# EAGLE library part UG-6464TDDBG01 (library RGB_OLED)
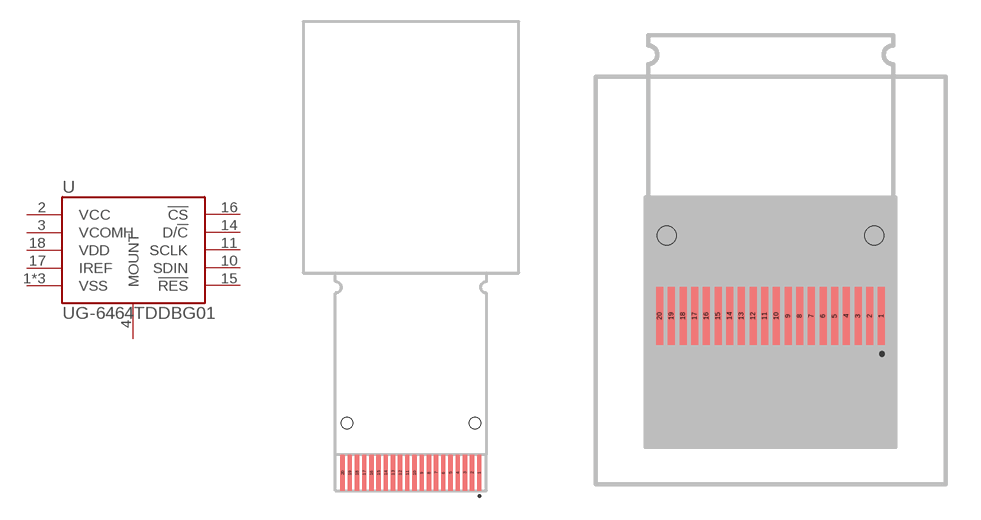
[diagram p0: symbol with the pads of UG-6464TDDBG01-EXTENDED; footprints UG-6464TDDBG01-EXTENDED, UG-6464TDDBG01-FOLDED]

Designator prefix U

## UG-6464TDDBG01-EXT  [UG-6464TDDBG01-EXTENDED]
1  VSS
2  VCC
3  VCOMH
4  MOUNT
10  SDIN
11  SCLK
14  D/!C
15  !RES
16  !CS
17  IREF
18  VDD
19  VSS
20  VSS

## UG-6464TDDBG01-FLD  [UG-6464TDDBG01-FOLDED]
Pads as for UG-6464TDDBG01-EXTENDED

## UG-6464TDDBG01  [AMPHENOL_10051922-2010ELF]
1  VSS
2  VCC
3  VCOMH
10  SDIN
11  SCLK
14  D/!C
15  !RES
16  !CS
17  IREF
18  VDD
19  VSS
20  VSS
P$21  MOUNT
P$22  MOUNT

## UG-6464TDDBG01MULT  [FFC_AND_HOTBAR]
Pads as for AMPHENOL_10051922-2010ELF

## Footprint UG-6464TDDBG01-EXTENDED (pad centres in mm)
smd 0.3 x 2.5: 1 4.75,1.25; 2 4.25,1.25; 3 3.75,1.25; 4 3.25,1.25; 5 2.75,1.25; 6 2.25,1.25; 7 1.75,1.25; 8 1.25,1.25; 9 0.75,1.25; 10 0.25,1.25; 11 -0.25,1.25; 12 -0.75,1.25; 13 -1.25,1.25; 14 -1.75,1.25; 15 -2.25,1.25; 16 -2.75,1.25; 17 -3.25,1.25; 18 -3.75,1.25; 19 -4.25,1.25; 20 -4.75,1.25
hole 0.8 at -4.45,4.7
hole 0.8 at 4.45,4.7

## Footprint UG-6464TDDBG01-FOLDED (pad centres in mm)
smd 0.3 x 2.5: 1 4.75,1.25; 2 4.25,1.25; 3 3.75,1.25; 4 3.25,1.25; 5 2.75,1.25; 6 2.25,1.25; 7 1.75,1.25; 8 1.25,1.25; 9 0.75,1.25; 10 0.25,1.25; 11 -0.25,1.25; 12 -0.75,1.25; 13 -1.25,1.25; 14 -1.75,1.25; 15 -2.25,1.25; 16 -2.75,1.25; 17 -3.25,1.25; 18 -3.75,1.25; 19 -4.25,1.25; 20 -4.75,1.25
hole 0.8 at -4.45,4.7
hole 0.8 at 4.45,4.7

## Footprint AMPHENOL_10051922-2010ELF (pad centres in mm)
smd 0.3 x 0.8: 1 -4.75,0; 2 -4.25,0; 3 -3.75,0; 4 -3.25,0; 5 -2.75,0; 6 -2.25,0; 7 -1.75,0; 8 -1.25,0; 9 -0.75,0; 10 -0.25,0; 11 0.25,0; 12 0.75,0; 13 1.25,0; 14 1.75,0; 15 2.25,0; 16 2.75,0; 17 3.25,0; 18 3.75,0; 19 4.25,0; 20 4.75,0
smd 0.95 x 1: P$21 -5.975,-2.7; P$22 5.975,-2.7

## Footprint FFC_AND_HOTBAR (pad centres in mm)
smd 0.3 x 5: 1 -4.75,2.1; 2 -4.25,2.1; 3 -3.75,2.1; 4 -3.25,2.1; 5 -2.75,2.1; 6 -2.25,2.1; 7 -1.75,2.1; 8 -1.25,2.1; 9 -0.75,2.1; 10 -0.25,2.1; 11 0.25,2.1; 12 0.75,2.1; 13 1.25,2.1; 14 1.75,2.1; 15 2.25,2.1; 16 2.75,2.1; 17 3.25,2.1; 18 3.75,2.1; 19 4.25,2.1; 20 4.75,2.1
smd 0.95 x 1: P$21 -5.975,-2.7; P$22 5.975,-2.7
hole 0.8 at 4.45,-2.6
hole 0.8 at -4.45,-2.6